# Altium footprint library Inductor1.PcbLib: 1 footprints
Each footprint in its own frame and in the unit in brackets; x right, y up, seen from the top. Pads: shape width x height; smd on the part's side, far side on the other; paste and mask are expansions set on the pad; w line width, h text height; cw(c..) or ccw(c..) is an arc to the next point about the centre after c.
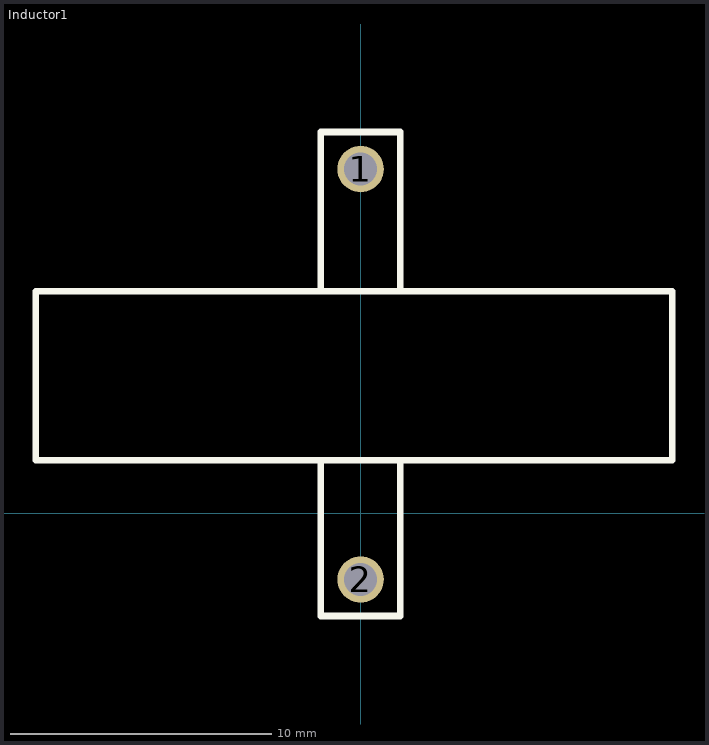
[diagram p0: the footprint, top view; thin cyan lines are the x and y axes]

## Inductor1 [mil]
pads (2):
  round 70 hole 50: 1(0,519.1) 2(0,-100)
Top Overlay:
  lines w10: -60,80 -60,-155 60,-155 60,80 ; -60,335 -60,575 60,575 60,335 ; -490,80 -490,335 470,335 470,80 -490,80